# EAGLE library part STL8N10F7 (library STL8N10F7)
N-channel 100 V, 17 m typ., 8 A STripFET F7 Power MOSFET in a PowerFLAT 3.3x3.3 package Source: Datasheet <https://www.st.com/resource/en/datasheet/stl8n10f7.pdf>
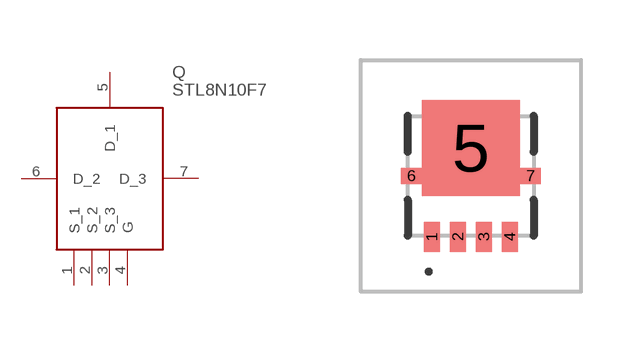
[diagram p0: symbol with the pads of STL8N10F7; footprint STL8N10F7]

Designator prefix Q

## STL8N10F7 (Description: N-channel 100 V, 17 m typ., 8 A STripFET F7 Power MOSFET in a PowerFLAT 3.3x3.3 package; Height: 0.9mm; Manufacturer_Name: STMicroelectronics; Manufacturer_Part_Number: STL8N10F7; Mouser_Part_Number: 511-STL8N10F7; Mouser_Price-Stock: https://www.mouser.co.uk/ProductDetail/STMicroelectronics/STL8N10F7?qs=DqCdCwOw4%2F4Qzkp1A1E6dA%3D%3D)  [STL8N10F7]
1  S_1
2  S_2
3  S_3
4  G
5  D_1
6  D_2
7  D_3

## Footprint STL8N10F7 (pad centres in mm)
PowerFLAT3.3 x 3.3
smd 0.4 x 0.75: 1 -0.975,-1.525; 2 -0.325,-1.525; 3 0.325,-1.525; 4 0.975,-1.525
smd 2.45 x 2.4: 5 0,0.7
smd 0.53 x 0.4: 6 -1.49,0; 7 1.49,0